# Altium footprint library Switch.PcbLib: 1 footprints
Each footprint in its own frame and in the unit in brackets; x right, y up, seen from the top. Pads: shape width x height; smd on the part's side, far side on the other; paste and mask are expansions set on the pad; w line width, h text height; cw(c..) or ccw(c..) is an arc to the next point about the centre after c.
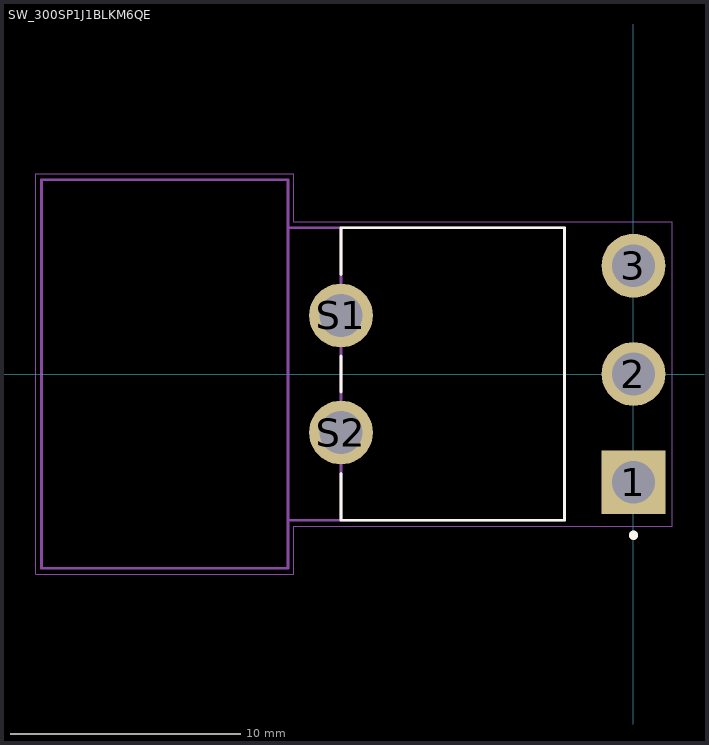
[diagram p0: the footprint, top view; thin cyan lines are the x and y axes]

## SW_300SP1J1BLKM6QE [mm]
pads (5):
  rect 2.775x2.775 hole 1.85: 1(0,-4.7)
  round 2.775 hole 1.85: 2(0,0) 3(0,4.7) S1(-12.7,2.54) S2(-12.7,-2.54)
Top Overlay:
  circle w0.2: c0,-7 r0.1
  lines w0.127: -12.7,-4.32 -12.7,-6.35 -3,-6.35 -3,6.35 -12.7,6.35 -12.7,4.32 ; -12.7,-0.78 -12.7,0.78
Mechanical 13:
  circle w0.2: c0,-7 r0.1
  lines w0.127: -15,-6.35 -15,6.35 ; -15,-6.35 -15,-8.435 -25.7,-8.435 -25.7,8.435 -15,8.435 -15,6.35 ; -15,-6.35 -12.7,-6.35 ; -15,6.35 -12.7,6.35 ; -12.7,-6.35 -12.7,6.35 ; -12.7,-6.35 -3,-6.35 -3,6.35 -12.7,6.35
Mechanical 15:
  lines w0.05: -25.95,-8.685 -25.95,8.685 -14.75,8.685 -14.75,6.6 1.68,6.6 1.68,-6.6 -14.75,-6.6 -14.75,-8.685 -25.95,-8.685
3D body "300SP1J1BLKM6QE--3DModel-STEP-520916.STEP": height 9.92, standoff -3.15, extent -25.847,-8.241 0.557,8.229